# EAGLE library part BSD840N (library transistors)
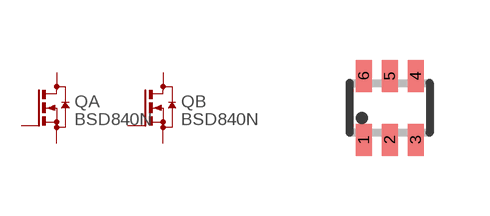
[diagram p1: symbol with the pads of SOT363; footprint SOT363]

Designator prefix Q; gates A=N-MOS B=N-MOS

## BSD840N  [SOT363]
1  A:S  pas
2  A:G  pas
3  B:D  pas
4  B:S  pas
5  B:G  pas
6  A:D  pas

## Footprint SOT363 (pad centres in mm)
Small Outline Transistor; 6 leads Philips Semiconductors, SOT363.pdf
smd 0.4 x 0.8: 1 -0.65,-0.8; 2 0,-0.8; 3 0.65,-0.8; 4 0.65,0.8; 5 0,0.8; 6 -0.65,0.8